# EAGLE library part ICM-20602 (library thanics_robotics)
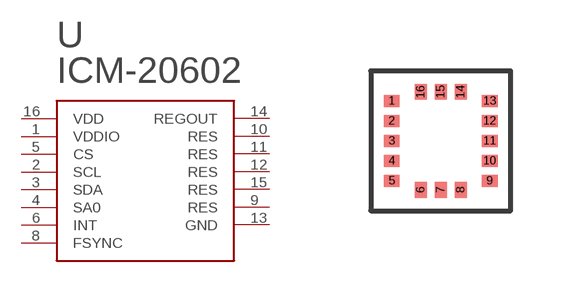
[diagram p33: symbol with the pads of 16LGA; footprint 16LGA]

Designator prefix -

## ICM-20602  [16LGA]
1  VDDIO
2  SCL
3  SDA
4  SA0
5  CS
6  INT
8  FSYNC
9  RES
10  RES
11  RES
12  RES
13  GND
14  REGOUT
15  RES
16  VDD

## Footprint 16LGA (pad centres in mm)
smd 0.4 x 0.3: 1 -1.225,1; 2 -1.225,0.5; 3 -1.225,0; 4 -1.225,-0.5; 5 -1.225,-1; 9 1.225,-1; 10 1.225,-0.5; 11 1.225,0; 12 1.225,0.5; 13 1.225,1
smd 0.3 x 0.4: 6 -0.5,-1.225; 7 0,-1.225; 8 0.5,-1.225; 14 0.5,1.225; 15 0,1.225; 16 -0.5,1.225